# EAGLE library part DS4E-L2-* (library df4iah_relay)
DS-RELAYS HIGHLY SENSITIVE 1500 V FCC SURGE NAiS WITHSTANDING MINIATURE RELAY Source: http://www.mew-europe.com/.. en_ds_61005_0001.pdf
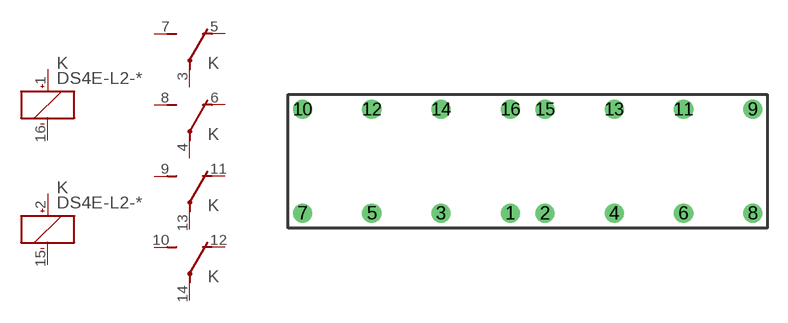
[diagram p55: symbol with the pads of DS4E-L; footprint DS4E-L]

Designator prefix K; gates S=K+- R=K+- 1=U 2=U 3=U 4=U

## DS4E-L2-1.5V (OC_FARNELL: unknown; OC_NEWARK: unknown), DS4E-L2-12V (OC_FARNELL: unknown; OC_NEWARK: unknown), DS4E-L2-24V (OC_FARNELL: unknown; OC_NEWARK: unknown), DS4E-L2-3V (OC_FARNELL: unknown; OC_NEWARK: unknown), DS4E-L2-48V (OC_FARNELL: unknown; OC_NEWARK: unknown), DS4E-L2-5V (OC_FARNELL: unknown; OC_NEWARK: unknown), DS4E-L2-6V (OC_FARNELL: unknown; OC_NEWARK: unknown), DS4E-L2-9V (OC_FARNELL: unknown; OC_NEWARK: unknown)  [DS4E-L]
1  S:+  pas
2  R:+  pas
3  1:P  pas
4  2:P  pas
5  1:O  pas
6  2:O  pas
7  1:S  pas
8  2:S  pas
9  3:S  pas
10  4:S  pas
11  3:O  pas
12  4:O  pas
13  3:P  pas
14  4:P  pas
15  R:-  pas
16  S:-  pas

## Footprint DS4E-L (pad centres in mm)
DS-RELAYS HIGHLY SENSITIVE 1500 V FCC SURGE WITHSTANDING MINIATURE RELAY Source: http://www.mew-europe.com/.. en_ds_61005_0001.pdf
drill 0.9: 1 -1.27,-3.81; 2 1.27,-3.81; 3 -6.35,-3.81; 4 6.35,-3.81; 5 -11.43,-3.81; 6 11.43,-3.81; 7 -16.51,-3.81; 8 16.51,-3.81; 9 16.51,3.81; 10 -16.51,3.81; 11 11.43,3.81; 12 -11.43,3.81; 13 6.35,3.81; 14 -6.35,3.81; 15 1.27,3.81; 16 -1.27,3.81